# EAGLE library part 5CEFA7F27 (library altera)
5cefa7f27i7 edit this description Auto generated by make-symbol-device-package-bsdl.ulp Rev. 44 Source: 5cefa7f27i7.txt Connect-List generated from 5cefa7f27i7.DEV Variant '' with split-device-symbol.ulp
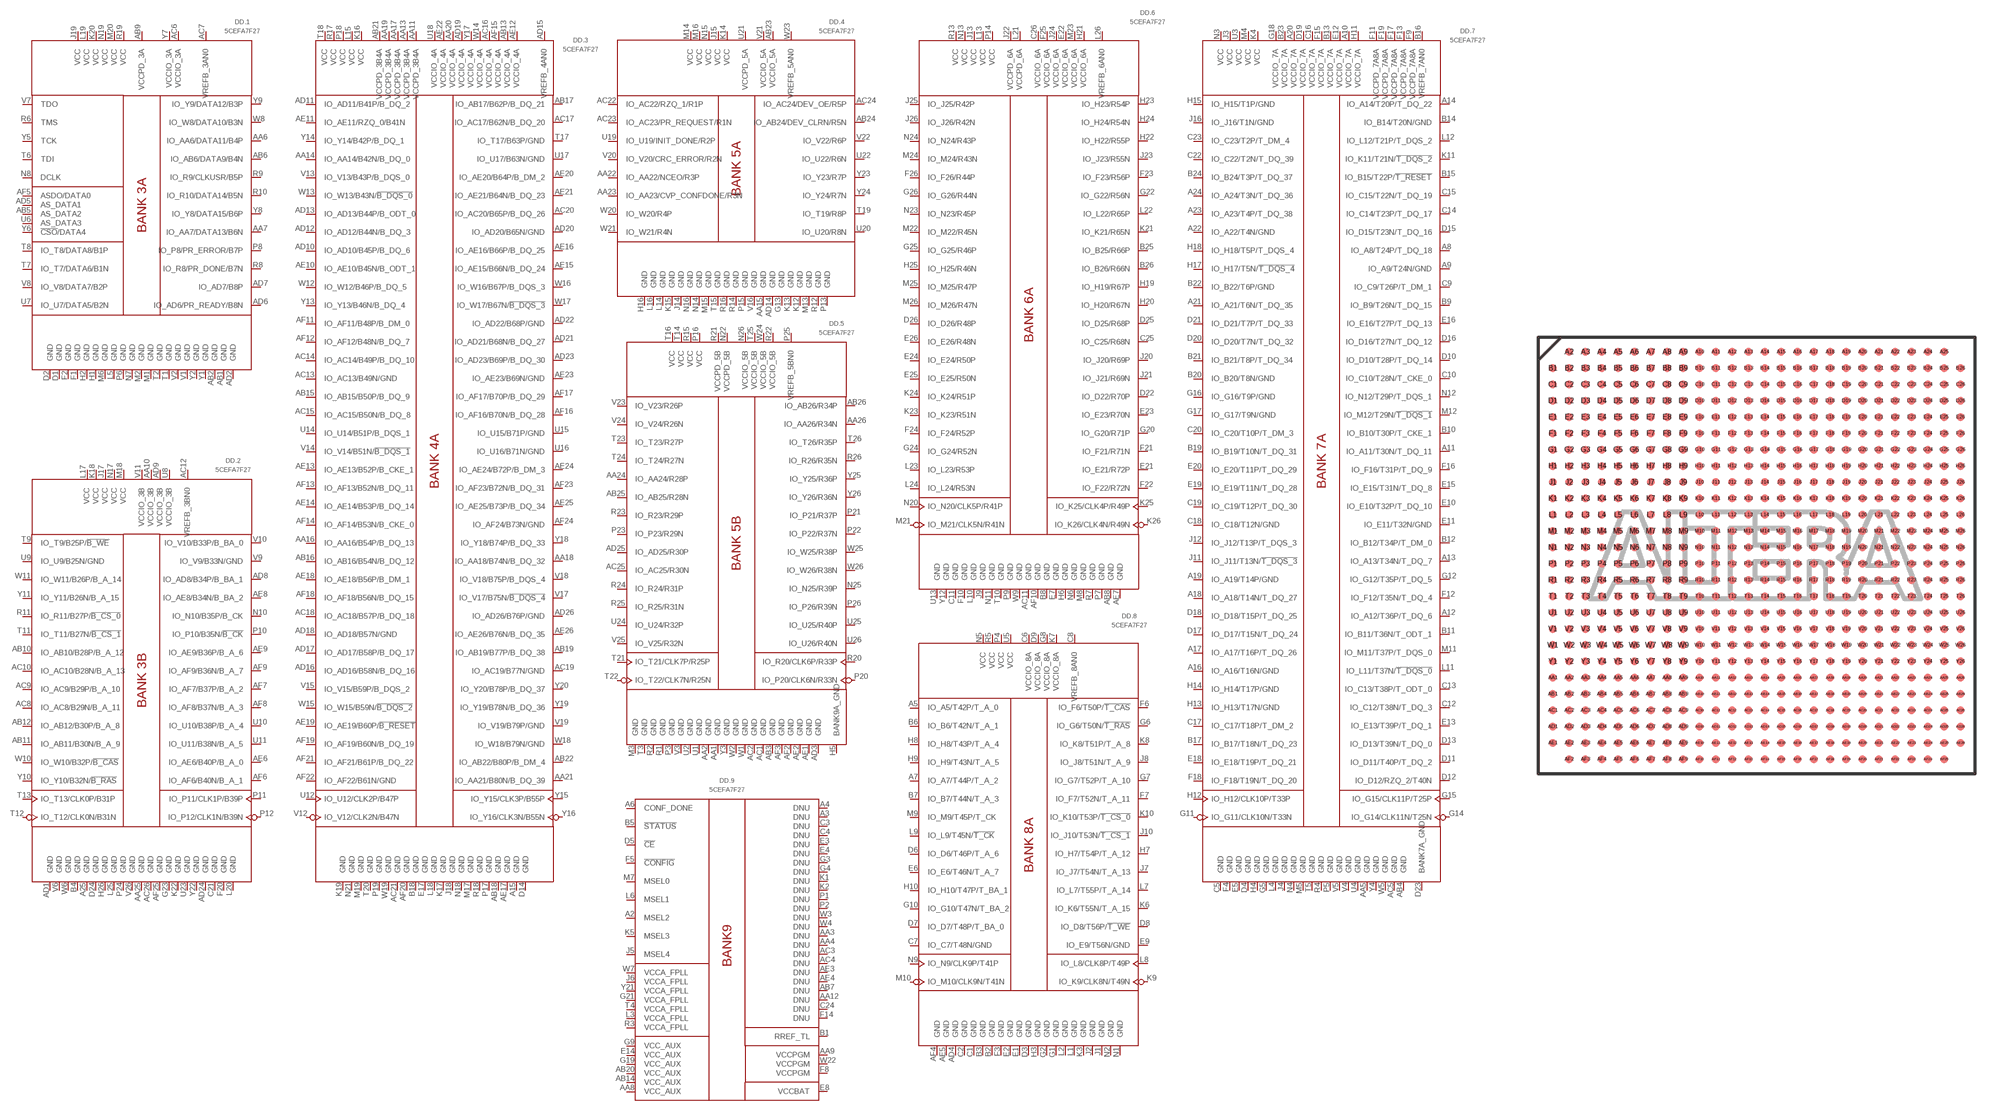
[diagram p6: symbol with the pads of FBGA672; footprint FBGA672]

Designator prefix DD; gates .1=5CEFA7F27I7_BANK3A .2=5CEFA7F27I7_BANK3B .3=5CEFA7F27I7_BANK4A .4=5CEFA7F27I7_BANK5A .5=5CEFA7F27I7_BANK5B .6=5CEFA7F27I7_BANK6A .7=5CEFA7F27I7_BANK7A .8=5CEFA7F27I7_BANK8A .9=5CEFA7F27I7_BANK9A

## 5CEFA7F27I7  [FBGA672]
A2  .9:MSEL2  in
A3  .9:DNU
A4  .9:DNU
A5  .8:IO_A5/T42P/T_A_0
A6  .9:CONF_DONE  out
A7  .8:IO_A7/T44P/T_A_2
A8  .7:IO_A8/T24P/T_DQ_18
A9  .7:IO_A9/T24N/GND
A10  .7:VCCIO_7A  pwr
A11  .7:IO_A11/T30N/T_DQ_11
A12  .7:IO_A12/T36P/T_DQ_6
A13  .7:IO_A13/T34N/T_DQ_7
A14  .7:IO_A14/T20P/T_DQ_22
A15  .3:GND  pwr
A16  .7:IO_A16/T16N/GND
A17  .7:IO_A17/T16P/T_DQ_26
A18  .7:IO_A18/T14N/T_DQ_27
A19  .7:IO_A19/T14P/GND
A20  .7:VCCIO_7A  pwr
A21  .7:IO_A21/T6N/T_DQ_35
A22  .7:IO_A22/T4N/GND
A23  .7:IO_A23/T4P/T_DQ_38
A24  .7:IO_A24/T3N/T_DQ_36
A25  .2:GND  pwr
AA1  .5:GND  pwr
AA2  .5:GND  pwr
AA3  .9:DNU
AA4  .9:DNU
AA5  .7:GND  pwr
AA6  .1:IO_AA6/DATA11/B4P
AA7  .1:IO_AA7/DATA13/B6N
AA8  .9:VCC_AUX  pwr
AA9  .9:VCCPGM  pwr
AA10  .2:VCCIO_3B  pwr
AA11  .3:VCCPD_3B4A  pwr
AA12  .9:DNU
AA13  .3:VCCPD_3B4A  pwr
AA14  .3:IO_AA14/B42N/B_DQ_0
AA15  .4:GND  pwr
AA16  .3:IO_AA16/B54P/B_DQ_13
AA17  .3:VCCPD_3B4A  pwr
AA18  .3:IO_AA18/B74N/B_DQ_32
AA19  .3:VCCPD_3B4A  pwr
AA20  .3:VCCIO_4A  pwr
AA21  .3:IO_AA21/B80N/B_DQ_39
AA22  .4:IO_AA22/NCEO/R3P
AA23  .4:IO_AA23/CVP_CONFDONE/R3N
AA24  .5:IO_AA24/R28P
AA25  .2:GND  pwr
AA26  .5:IO_AA26/R34N
AB1  .1:GND  pwr
AB2  .1:GND  pwr
AB3  .5:GND  pwr
AB4  .7:GND  pwr
AB5  .1:AS_DATA2  in
AB6  .1:IO_AB6/DATA9/B4N
AB7  .9:DNU
AB8  .6:GND  pwr
AB9  .1:VCCPD_3A  pwr
AB10  .2:IO_AB10/B28P/B_A_12
AB11  .2:IO_AB11/B30N/B_A_9
AB12  .2:IO_AB12/B30P/B_A_8
AB13  .3:VCCIO_4A  pwr
AB14  .9:VCC_AUX  pwr
AB15  .3:IO_AB15/B50P/B_DQ_9
AB16  .3:IO_AB16/B54N/B_DQ_12
AB17  .3:IO_AB17/B62P/B_DQ_21
AB18  .3:GND  pwr
AB19  .3:IO_AB19/B77P/B_DQ_38
AB20  .9:VCC_AUX  pwr
AB21  .3:VCCPD_3B4A  pwr
AB22  .3:IO_AB22/B80P/B_DM_4
AB23  .4:VCCIO_5A  pwr
AB24  .4:IO_AB24/DEV_CLRN/R5N
AB25  .5:IO_AB25/R28N
AB26  .5:IO_AB26/R34P
AC1  .5:GND  pwr
AC2  .5:GND  pwr
AC3  .9:DNU
AC4  .9:DNU
AC5  .7:GND  pwr
AC6  .1:VCCIO_3A  pwr
AC7  .1:VREFB_3AN0  pwr
AC8  .2:IO_AC8/B29N/B_A_11
AC9  .2:IO_AC9/B29P/B_A_10
AC10  .2:IO_AC10/B28N/B_A_13
AC11  .6:GND  pwr
AC12  .2:VREFB_3BN0  pwr
AC13  .3:IO_AC13/B49N/GND
AC14  .3:IO_AC14/B49P/B_DQ_10
AC15  .3:IO_AC15/B50N/B_DQ_8
AC16  .3:VCCIO_4A  pwr
AC17  .3:IO_AC17/B62N/B_DQ_20
AC18  .3:IO_AC18/B57P/B_DQ_18
AC19  .3:IO_AC19/B77N/GND
AC20  .3:IO_AC20/B65P/B_DQ_26
AC21  .3:GND  pwr
AC22  .4:IO_AC22/RZQ_1/R1P
AC23  .4:IO_AC23/PR_REQUEST/R1N
AC24  .4:IO_AC24/DEV_OE/R5P
AC25  .5:IO_AC25/R30N
AC26  .2:GND  pwr
AD1  .2:GND  pwr
AD2  .1:GND  pwr
AD3  .5:GND  pwr
AD4  .8:GND  pwr
AD5  .1:AS_DATA1  in
AD6  .1:IO_AD6/PR_READY/B8N
AD7  .1:IO_AD7/B8P
AD8  .2:IO_AD8/B34P/B_BA_1
AD9  .2:VCCIO_3B  pwr
AD10  .3:IO_AD10/B45P/B_DQ_6
AD11  .3:IO_AD11/B41P/B_DQ_2
AD12  .3:IO_AD12/B44N/B_DQ_3
AD13  .3:IO_AD13/B44P/B_ODT_0
AD14  .4:GND  pwr
AD15  .3:VREFB_4AN0  pwr
AD16  .3:IO_AD16/B58N/B_DQ_16
AD17  .3:IO_AD17/B58P/B_DQ_17
AD18  .3:IO_AD18/B57N/GND
AD19  .3:VCCIO_4A  pwr
AD20  .3:IO_AD20/B65N/GND
AD21  .3:IO_AD21/B68N/B_DQ_27
AD22  .3:IO_AD22/B68P/GND
AD23  .3:IO_AD23/B69P/B_DQ_30
AD24  .2:GND  pwr
AD25  .5:IO_AD25/R30P
AD26  .3:IO_AD26/B76P/GND
AE1  .5:GND  pwr
AE2  .5:GND  pwr
AE3  .9:DNU
AE4  .9:DNU
AE5  .8:GND  pwr
AE6  .2:IO_AE6/B40P/B_A_0
AE7  .6:GND  pwr
AE8  .2:IO_AE8/B34N/B_BA_2
AE9  .2:IO_AE9/B36P/B_A_6
AE10  .3:IO_AE10/B45N/B_ODT_1
AE11  .3:IO_AE11/RZQ_0/B41N
AE12  .3:VCCIO_4A  pwr
AE13  .3:IO_AE13/B52P/B_CKE_1
AE14  .3:IO_AE14/B53P/B_DQ_14
AE15  .3:IO_AE15/B66N/B_DQ_24
AE16  .3:IO_AE16/B66P/B_DQ_25
AE17  .3:GND  pwr
AE18  .3:IO_AE18/B56P/B_DM_1
AE19  .3:IO_AE19/B60P/!B_RESET
AE20  .3:IO_AE20/B64P/B_DM_2
AE21  .3:IO_AE21/B64N/B_DQ_23
AE22  .3:VCCIO_4A  pwr
AE23  .3:IO_AE23/B69N/GND
AE24  .3:IO_AE24/B72P/B_DM_3
AE25  .3:IO_AE25/B73P/B_DQ_34
AE26  .3:IO_AE26/B76N/B_DQ_35
AF2  .5:GND  pwr
AF3  .5:GND  pwr
AF4  .8:GND  pwr
AF5  .1:ASDO/DATA0  in
AF6  .2:IO_AF6/B40N/B_A_1
AF7  .2:IO_AF7/B37P/B_A_2
AF8  .2:IO_AF8/B37N/B_A_3
AF9  .2:IO_AF9/B36N/B_A_7
AF10  .6:GND  pwr
AF11  .3:IO_AF11/B48P/B_DM_0
AF12  .3:IO_AF12/B48N/B_DQ_7
AF13  .3:IO_AF13/B52N/B_DQ_11
AF14  .3:IO_AF14/B53N/B_CKE_0
AF15  .3:VCCIO_4A  pwr
AF16  .3:IO_AF16/B70N/B_DQ_28
AF17  .3:IO_AF17/B70P/B_DQ_29
AF18  .3:IO_AF18/B56N/B_DQ_15
AF19  .3:IO_AF19/B60N/B_DQ_19
AF20  .3:GND  pwr
AF21  .3:IO_AF21/B61P/B_DQ_22
AF22  .3:IO_AF22/B61N/GND
AF23  .3:IO_AF23/B72N/B_DQ_31
AF24  .3:IO_AF24/B73N/GND
AF25  .2:GND  pwr
B1  .9:RREF_TL  pas
B2  .8:GND  pwr
B3  .8:GND  pwr
B4  .2:GND  pwr
B5  .9:!STATUS  out
B6  .8:IO_B6/T42N/T_A_1
B7  .8:IO_B7/T44N/T_A_3
B8  .6:GND  pwr
B9  .7:IO_B9/T26N/T_DQ_15
B10  .7:IO_B10/T30P/T_CKE_1
B11  .7:IO_B11/T36N/T_ODT_1
B12  .7:IO_B12/T34P/T_DM_0
B13  .7:VCCIO_7A  pwr
B14  .7:IO_B14/T20N/GND
B15  .7:IO_B15/T22P/!T_RESET
B16  .7:VREFB_7AN0  pwr
B17  .7:IO_B17/T18N/T_DQ_23
B18  .3:GND  pwr
B19  .7:IO_B19/T10N/T_DQ_31
B20  .7:IO_B20/T8N/GND
B21  .7:IO_B21/T8P/T_DQ_34
B22  .7:IO_B22/T6P/GND
B23  .7:VCCIO_7A  pwr
B24  .7:IO_B24/T3P/T_DQ_37
B25  .6:IO_B25/R66P
B26  .6:IO_B26/R66N
C1  .8:GND  pwr
C2  .8:GND  pwr
C3  .9:DNU
C4  .9:DNU
C5  .7:GND  pwr
C6  .8:VCCIO_8A  pwr
C7  .8:IO_C7/T48N/GND
C8  .8:VREFB_8AN0  pwr
C9  .7:IO_C9/T26P/T_DM_1
C10  .7:IO_C10/T28N/T_CKE_0
C11  .6:GND  pwr
C12  .7:IO_C12/T38N/T_DQ_3
C13  .7:IO_C13/T38P/T_ODT_0
C14  .7:IO_C14/T23P/T_DQ_17
C15  .7:IO_C15/T22N/T_DQ_19
C16  .7:VCCIO_7A  pwr
C17  .7:IO_C17/T18P/T_DM_2
C18  .7:IO_C18/T12N/GND
C19  .7:IO_C19/T12P/T_DQ_30
C20  .7:IO_C20/T10P/T_DM_3
C21  .2:GND  pwr
C22  .7:IO_C22/T2N/T_DQ_39
C23  .7:IO_C23/T2P/T_DM_4
C24  .9:DNU
C25  .6:IO_C25/R68N
C26  .6:VCCIO_6A  pwr
D1  .1:GND  pwr
D2  .1:GND  pwr
D3  .8:GND  pwr
D4  .7:GND  pwr
D5  .9:!CE  in
D6  .8:IO_D6/T46P/T_A_6
D7  .8:IO_D7/T48P/T_BA_0
D8  .8:IO_D8/T56P/!T_WE
D9  .8:VCCIO_8A  pwr
D10  .7:IO_D10/T28P/T_DQ_14
D11  .7:IO_D11/T40P/T_DQ_2
D12  .7:IO_D12/RZQ_2/T40N
D13  .7:IO_D13/T39N/T_DQ_0
D14  .3:GND  pwr
D15  .7:IO_D15/T23N/T_DQ_16
D16  .7:IO_D16/T27N/T_DQ_12
D17  .7:IO_D17/T15N/T_DQ_24
D18  .7:IO_D18/T15P/T_DQ_25
D19  .7:VCCIO_7A  pwr
D20  .7:IO_D20/T7N/T_DQ_32
D21  .7:IO_D21/T7P/T_DQ_33
D22  .6:IO_D22/R70P
D23  .7:BANK7A_GND  pwr
D24  .2:GND  pwr
D25  .6:IO_D25/R68P
D26  .6:IO_D26/R48P
E1  .8:GND  pwr
E2  .8:GND  pwr
E3  .9:DNU
E4  .9:DNU
E5  .7:GND  pwr
E6  .8:IO_E6/T46N/T_A_7
E7  .6:GND  pwr
E8  .9:VCCBAT  pwr
E9  .8:IO_E9/T56N/GND
E10  .7:IO_E10/T32P/T_DQ_10
E11  .7:IO_E11/T32N/GND
E12  .7:VCCIO_7A  pwr
E13  .7:IO_E13/T39P/T_DQ_1
E14  .9:VCC_AUX  pwr
E15  .7:IO_E15/T31N/T_DQ_8
E16  .7:IO_E16/T27P/T_DQ_13
E17  .3:GND  pwr
E18  .7:IO_E18/T19P/T_DQ_21
E19  .7:IO_E19/T11N/T_DQ_28
E20  .7:IO_E20/T11P/T_DQ_29
E21  .6:IO_E21/R72P
E22  .6:VCCIO_6A  pwr
E23  .6:IO_E23/R70N
E24  .6:IO_E24/R50P
E25  .6:IO_E25/R50N
E26  .6:IO_E26/R48N
F1  .1:GND  pwr
F2  .1:GND  pwr
F3  .8:GND  pwr
F4  .7:GND  pwr
F5  .9:!CONFIG  in
F6  .8:IO_F6/T50P/!T_CAS
F7  .8:IO_F7/T52N/T_A_11
F8  .9:VCCPGM  pwr
F9  .7:VCCPD_7A8A  pwr
F10  .6:GND  pwr
F11  .7:VCCPD_7A8A  pwr
F12  .7:IO_F12/T35N/T_DQ_4
F13  .7:VCCPD_7A8A  pwr
F14  .9:DNU
F15  .7:VCCIO_7A  pwr
F16  .7:IO_F16/T31P/T_DQ_9
F17  .7:VCCPD_7A8A  pwr
F18  .7:IO_F18/T19N/T_DQ_20
F19  .7:VCCPD_7A8A  pwr
F20  .2:GND  pwr
F21  .6:IO_F21/R71N
F22  .6:IO_F22/R72N
F23  .6:IO_F23/R56P
F24  .6:IO_F24/R52P
F25  .6:VCCIO_6A  pwr
F26  .6:IO_F26/R44P
G1  .8:GND  pwr
G2  .8:GND  pwr
G3  .9:DNU
G4  .9:DNU
G5  .7:GND  pwr
G6  .8:IO_G6/T50N/!T_RAS
G7  .8:IO_G7/T52P/T_A_10
G8  .8:VCCIO_8A  pwr
G9  .9:VCC_AUX  pwr
G10  .8:IO_G10/T47N/T_BA_2
G11  .7:IO_G11/CLK10N/T33N  in
G12  .7:IO_G12/T35P/T_DQ_5
G13  .4:GND  pwr
G14  .7:IO_G14/CLK11N/T25N  in
G15  .7:IO_G15/CLK11P/T25P  in
G16  .7:IO_G16/T9P/GND
G17  .7:IO_G17/T9N/GND
G18  .7:VCCIO_7A  pwr
G19  .9:VCC_AUX  pwr
G20  .6:IO_G20/R71P
G21  .9:VCCA_FPLL  pwr
G22  .6:IO_G22/R56N
G23  .2:GND  pwr
G24  .6:IO_G24/R52N
G25  .6:IO_G25/R46P
G26  .6:IO_G26/R44N
H1  .1:GND  pwr
H2  .1:GND  pwr
H3  .8:GND  pwr
H4  .7:GND  pwr
H5  .5:BANK9A_GND  pwr
H6  .6:GND  pwr
H7  .8:IO_H7/T54P/T_A_12
H8  .8:IO_H8/T43P/T_A_4
H9  .8:IO_H9/T43N/T_A_5
H10  .8:IO_H10/T47P/T_BA_1
H11  .7:VCCIO_7A  pwr
H12  .7:IO_H12/CLK10P/T33P  in
H13  .7:IO_H13/T17N/GND
H14  .7:IO_H14/T17P/GND
H15  .7:IO_H15/T1P/GND
H16  .4:GND  pwr
H17  .7:IO_H17/T5N/!T_DQS_4
H18  .7:IO_H18/T5P/T_DQS_4
H19  .6:IO_H19/R67P
H20  .6:IO_H20/R67N
H21  .6:VCCIO_6A  pwr
H22  .6:IO_H22/R55P
H23  .6:IO_H23/R54P
H24  .6:IO_H24/R54N
H25  .6:IO_H25/R46N
H26  .2:GND  pwr
J1  .8:GND  pwr
J2  .8:GND  pwr
J3  .7:VCC  pwr
J4  .7:GND  pwr
J5  .9:MSEL4  in
J6  .9:VCCA_FPLL  pwr
J7  .8:IO_J7/T54N/T_A_13
J8  .8:IO_J8/T51N/T_A_9
J9  .6:GND  pwr
J10  .8:IO_J10/T53N/!T_CS_1
J11  .7:IO_J11/T13N/!T_DQS_3
J12  .7:IO_J12/T13P/T_DQS_3
J13  .6:VCC  pwr
J14  .4:GND  pwr
J15  .4:VCC  pwr
J16  .7:IO_J16/T1N/GND
J17  .2:VCC  pwr
J18  .3:GND  pwr
J19  .1:VCC  pwr
J20  .6:IO_J20/R69P
J21  .6:IO_J21/R69N
J22  .6:VCCPD_6A  pwr
J23  .6:IO_J23/R55N
J24  .6:VCCIO_6A  pwr
J25  .6:IO_J25/R42P
J26  .6:IO_J26/R42N
K1  .9:DNU
K2  .9:DNU
K3  .8:GND  pwr
K4  .7:VCC  pwr
K5  .9:MSEL3  in
K6  .8:IO_K6/T55N/T_A_15
K7  .8:VCCIO_8A  pwr
K8  .8:IO_K8/T51P/T_A_8
K9  .8:IO_K9/CLK8N/T49N  in
K10  .8:IO_K10/T53P/!T_CS_0
K11  .7:IO_K11/T21N/!T_DQS_2
K12  .4:GND  pwr
K13  .4:GND  pwr
K14  .4:VCC  pwr
K15  .4:GND  pwr
K16  .3:VCC  pwr
K17  .3:GND  pwr
K18  .2:VCC  pwr
K19  .3:GND  pwr
K20  .1:VCC  pwr
K21  .6:IO_K21/R65N
K22  .2:GND  pwr
K23  .6:IO_K23/R51N
K24  .6:IO_K24/R51P
K25  .6:IO_K25/CLK4P/R49P  in
K26  .6:IO_K26/CLK4N/R49N  in
L1  .8:GND  pwr
L2  .8:GND  pwr
L3  .9:VCCA_FPLL  pwr
L4  .7:GND  pwr
L5  .1:GND  pwr
L6  .9:MSEL1  in
L7  .8:IO_L7/T55P/T_A_14
L8  .8:IO_L8/CLK8P/T49P  in
L9  .8:IO_L9/T45N/!T_CK
L10  .6:GND  pwr
L11  .7:IO_L11/T37N/!T_DQS_0
L12  .7:IO_L12/T21P/T_DQS_2
L13  .6:VCC  pwr
L14  .4:GND  pwr
L15  .3:VCC  pwr
L16  .4:GND  pwr
L17  .2:VCC  pwr
L18  .3:GND  pwr
L19  .1:VCC  pwr
L20  .2:GND  pwr
L21  .6:VCCPD_6A  pwr
L22  .6:IO_L22/R65P
L23  .6:IO_L23/R53P
L24  .6:IO_L24/R53N
L25  .2:GND  pwr
L26  .6:VREFB_6AN0  pwr
M1  .1:GND  pwr
M2  .1:GND  pwr
M3  .5:GND  pwr
M4  .7:VCC  pwr
M5  .7:GND  pwr
M6  .1:GND  pwr
M7  .9:MSEL0  in
M8  .6:GND  pwr
M9  .8:IO_M9/T45P/T_CK
M10  .8:IO_M10/CLK9N/T41N  in
M11  .7:IO_M11/T37P/T_DQS_0
M12  .7:IO_M12/T29N/!T_DQS_1
M13  .4:GND  pwr
M14  .4:VCC  pwr
M15  .4:GND  pwr
M16  .4:VCC  pwr
M17  .3:GND  pwr
M18  .2:VCC  pwr
M19  .3:GND  pwr
M20  .1:VCC  pwr
M21  .6:IO_M21/CLK5N/R41N  in
M22  .6:IO_M22/R45N
M23  .6:VCCIO_6A  pwr
M24  .6:IO_M24/R43N
M25  .6:IO_M25/R47P
M26  .6:IO_M26/R47N
N1  .8:GND  pwr
N2  .8:GND  pwr
N3  .7:VCC  pwr
N4  .7:GND  pwr
N5  .8:VCC  pwr
N6  .6:GND  pwr
N7  .1:GND  pwr
N8  .1:DCLK  in
N9  .8:IO_N9/CLK9P/T41P  in
N10  .2:IO_N10/B35P/B_CK
N11  .6:GND  pwr
N12  .7:IO_N12/T29P/T_DQS_1
N13  .6:VCC  pwr
N14  .4:GND  pwr
N15  .4:VCC  pwr
N16  .4:GND  pwr
N17  .2:VCC  pwr
N18  .3:GND  pwr
N19  .1:VCC  pwr
N20  .6:IO_N20/CLK5P/R41P  in
N21  .3:GND  pwr
N22  .5:VCCPD_5B  pwr
N23  .6:IO_N23/R45P
N24  .6:IO_N24/R43P
N25  .5:IO_N25/R39P
N26  .5:VCCIO_5B  pwr
P1  .9:DNU
P2  .9:DNU
P3  .5:GND  pwr
P4  .8:VCC  pwr
P5  .7:GND  pwr
P6  .1:GND  pwr
P7  .6:GND  pwr
P8  .1:IO_P8/PR_ERROR/B7P
P9  .6:GND  pwr
P10  .2:IO_P10/B35N/!B_CK
P11  .2:IO_P11/CLK1P/B39P  in
P12  .2:IO_P12/CLK1N/B39N  in
P13  .4:GND  pwr
P14  .6:VCC  pwr
P15  .4:GND  pwr
P16  .5:VCC  pwr
P17  .3:GND  pwr
P18  .3:VCC  pwr
P19  .3:GND  pwr
P20  .5:IO_P20/CLK6N/R33N  in
P21  .5:IO_P21/R37P
P22  .5:IO_P22/R37N
P23  .5:IO_P23/R29N
P24  .2:GND  pwr
P25  .5:VREFB_5BN0  pwr
P26  .5:IO_P26/R39N
R1  .5:GND  pwr
R2  .5:GND  pwr
R3  .9:VCCA_FPLL  pwr
R4  .7:GND  pwr
R5  .8:VCC  pwr
R6  .1:TMS  in
R7  .6:GND  pwr
R8  .1:IO_R8/PR_DONE/B7N
R9  .1:IO_R9/CLKUSR/B5P
R10  .1:IO_R10/DATA14/B5N
R11  .2:IO_R11/B27P/!B_CS_0
R12  .4:GND  pwr
R13  .6:VCC  pwr
R14  .4:GND  pwr
R15  .5:VCC  pwr
R16  .4:GND  pwr
R17  .3:VCC  pwr
R18  .3:GND  pwr
R19  .1:VCC  pwr
R20  .5:IO_R20/CLK6P/R33P  in
R21  .5:VCCPD_5B  pwr
R22  .5:VCCIO_5B  pwr
R23  .5:IO_R23/R29P
R24  .5:IO_R24/R31P
R25  .5:IO_R25/R31N
R26  .5:IO_R26/R35N
T1  .1:GND  pwr
T2  .1:GND  pwr
T3  .5:GND  pwr
T4  .9:VCCA_FPLL  pwr
T5  .7:GND  pwr
T6  .1:TDI  in
T7  .1:IO_T7/DATA6/B1N
T8  .1:IO_T8/DATA8/B1P
T9  .2:IO_T9/B25P/!B_WE
T10  .6:GND  pwr
T11  .2:IO_T11/B27N/!B_CS_1
T12  .2:IO_T12/CLK0N/B31N  in
T13  .2:IO_T13/CLK0P/B31P  in
T14  .5:VCC  pwr
T15  .4:GND  pwr
T16  .5:VCC  pwr
T17  .3:IO_T17/B63P/GND
T18  .3:VCC  pwr
T19  .4:IO_T19/R8P
T20  .3:GND  pwr
T21  .5:IO_T21/CLK7P/R25P  in
T22  .5:IO_T22/CLK7N/R25N  in
T23  .5:IO_T23/R27P
T24  .5:IO_T24/R27N
T25  .5:VCCIO_5B  pwr
T26  .5:IO_T26/R35P
U1  .5:GND  pwr
U2  .5:GND  pwr
U3  .7:VCC  pwr
U4  .7:GND  pwr
U5  .8:VCC  pwr
U6  .1:AS_DATA3  in
U7  .1:IO_U7/DATA5/B2N
U8  .2:VCCIO_3B  pwr
U9  .2:IO_U9/B25N/GND
U10  .2:IO_U10/B38P/B_A_4
U11  .2:IO_U11/B38N/B_A_5
U12  .3:IO_U12/CLK2P/B47P  in
U13  .6:GND  pwr
U14  .3:IO_U14/B51P/B_DQS_1
U15  .3:IO_U15/B71P/GND
U16  .3:IO_U16/B71N/GND
U17  .3:IO_U17/B63N/GND
U18  .3:VCCIO_4A  pwr
U19  .4:IO_U19/INIT_DONE/R2P
U20  .4:IO_U20/R8N
U21  .4:VCCPD_5A  pwr
U22  .4:IO_U22/R6N
U23  .2:GND  pwr
U24  .5:IO_U24/R32P
U25  .5:IO_U25/R40P
U26  .5:IO_U26/R40N
V1  .1:GND  pwr
V2  .1:GND  pwr
V3  .5:GND  pwr
V4  .7:GND  pwr
V5  .7:GND  pwr
V6  .2:GND  pwr
V7  .1:TDO  out
V8  .1:IO_V8/DATA7/B2P
V9  .2:IO_V9/B33N/GND
V10  .2:IO_V10/B33P/B_BA_0
V11  .2:VCCIO_3B  pwr
V12  .3:IO_V12/CLK2N/B47N  in
V13  .3:IO_V13/B43P/B_DQS_0
V14  .3:IO_V14/B51N/!B_DQS_1
V15  .3:IO_V15/B59P/B_DQS_2
V16  .4:GND  pwr
V17  .3:IO_V17/B75N/!B_DQS_4
V18  .3:IO_V18/B75P/B_DQS_4
V19  .3:IO_V19/B79P/GND
V20  .4:IO_V20/CRC_ERROR/R2N
V21  .4:VCCIO_5A  pwr
V22  .4:IO_V22/R6P
V23  .5:IO_V23/R26P
V24  .5:IO_V24/R26N
V25  .5:IO_V25/R32N
V26  .2:GND  pwr
W1  .5:GND  pwr
W2  .5:GND  pwr
W3  .9:DNU
W4  .9:DNU
W5  .7:GND  pwr
W6  .2:GND  pwr
W7  .9:VCCA_FPLL  pwr
W8  .1:IO_W8/DATA10/B3N
W9  .6:GND  pwr
W10  .2:IO_W10/B32P/!B_CAS
W11  .2:IO_W11/B26P/B_A_14
W12  .3:IO_W12/B46P/B_DQ_5
W13  .3:IO_W13/B43N/!B_DQS_0
W14  .3:VCCIO_4A  pwr
W15  .3:IO_W15/B59N/!B_DQS_2
W16  .3:IO_W16/B67P/B_DQS_3
W17  .3:IO_W17/B67N/!B_DQS_3
W18  .3:IO_W18/B79N/GND
W19  .3:GND  pwr
W20  .4:IO_W20/R4P
W21  .4:IO_W21/R4N
W22  .9:VCCPGM  pwr
W23  .4:VREFB_5AN0  pwr
W24  .5:VCCIO_5B  pwr
W25  .5:IO_W25/R38P
W26  .5:IO_W26/R38N
Y1  .1:GND  pwr
Y2  .1:GND  pwr
Y3  .5:GND  pwr
Y4  .7:GND  pwr
Y5  .1:TCK  in
Y6  .1:!CSO!/DATA4  in
Y7  .1:VCCIO_3A  pwr
Y8  .1:IO_Y8/DATA15/B6P
Y9  .1:IO_Y9/DATA12/B3P
Y10  .2:IO_Y10/B32N/!B_RAS
Y11  .2:IO_Y11/B26N/B_A_15
Y12  .6:GND  pwr
Y13  .3:IO_Y13/B46N/B_DQ_4
Y14  .3:IO_Y14/B42P/B_DQ_1
Y15  .3:IO_Y15/CLK3P/B55P  in
Y16  .3:IO_Y16/CLK3N/B55N  in
Y17  .3:VCCIO_4A  pwr
Y18  .3:IO_Y18/B74P/B_DQ_33
Y19  .3:IO_Y19/B78N/B_DQ_36
Y20  .3:IO_Y20/B78P/B_DQ_37
Y21  .9:VCCA_FPLL  pwr
Y22  .2:GND  pwr
Y23  .4:IO_Y23/R7P
Y24  .4:IO_Y24/R7N
Y25  .5:IO_Y25/R36P
Y26  .5:IO_Y26/R36N

## Footprint FBGA672 (pad centres in mm)
5cefa7f27i6 edit this description Auto generated by make-symbol-device-package-bsdl.ulp Rev. 44 Source: 5cefa7f27i6.txt
smd 0.5 x 0.5: A2 -11.5,12.5; A3 -10.5,12.5; A4 -9.5,12.5; A5 -8.5,12.5; A6 -7.5,12.5; A7 -6.5,12.5; A8 -5.5,12.5; A9 -4.5,12.5; A10 -3.5,12.5; A11 -2.5,12.5; A12 -1.5,12.5; A13 -0.5,12.5; A14 0.5,12.5; A15 1.5,12.5; A16 2.5,12.5; A17 3.5,12.5; A18 4.5,12.5; A19 5.5,12.5; A20 6.5,12.5; A21 7.5,12.5; A22 8.5,12.5; A23 9.5,12.5; A24 10.5,12.5; A25 11.5,12.5; AA1 -12.5,-7.5; AA2 -11.5,-7.5; AA3 -10.5,-7.5; AA4 -9.5,-7.5; AA5 -8.5,-7.5; AA6 -7.5,-7.5; AA7 -6.5,-7.5; AA8 -5.5,-7.5; AA9 -4.5,-7.5; AA10 -3.5,-7.5; AA11 -2.5,-7.5; AA12 -1.5,-7.5; AA13 -0.5,-7.5; AA14 0.5,-7.5; AA15 1.5,-7.5; AA16 2.5,-7.5; AA17 3.5,-7.5; AA18 4.5,-7.5; AA19 5.5,-7.5; AA20 6.5,-7.5; AA21 7.5,-7.5; AA22 8.5,-7.5; AA23 9.5,-7.5; AA24 10.5,-7.5; AA25 11.5,-7.5; AA26 12.5,-7.5; AB1 -12.5,-8.5; AB2 -11.5,-8.5; AB3 -10.5,-8.5; AB4 -9.5,-8.5; AB5 -8.5,-8.5; AB6 -7.5,-8.5; AB7 -6.5,-8.5; AB8 -5.5,-8.5; AB9 -4.5,-8.5; AB10 -3.5,-8.5; AB11 -2.5,-8.5; AB12 -1.5,-8.5; AB13 -0.5,-8.5; AB14 0.5,-8.5; AB15 1.5,-8.5; AB16 2.5,-8.5; AB17 3.5,-8.5; AB18 4.5,-8.5; AB19 5.5,-8.5; AB20 6.5,-8.5; AB21 7.5,-8.5; AB22 8.5,-8.5; AB23 9.5,-8.5; AB24 10.5,-8.5; AB25 11.5,-8.5; AB26 12.5,-8.5; AC1 -12.5,-9.5; AC2 -11.5,-9.5; AC3 -10.5,-9.5; AC4 -9.5,-9.5; AC5 -8.5,-9.5; AC6 -7.5,-9.5; AC7 -6.5,-9.5; AC8 -5.5,-9.5; AC9 -4.5,-9.5; AC10 -3.5,-9.5; AC11 -2.5,-9.5; AC12 -1.5,-9.5; AC13 -0.5,-9.5; AC14 0.5,-9.5; AC15 1.5,-9.5; AC16 2.5,-9.5; AC17 3.5,-9.5; AC18 4.5,-9.5; AC19 5.5,-9.5; AC20 6.5,-9.5; AC21 7.5,-9.5; AC22 8.5,-9.5; AC23 9.5,-9.5; AC24 10.5,-9.5; AC25 11.5,-9.5; AC26 12.5,-9.5; AD1 -12.5,-10.5; AD2 -11.5,-10.5; AD3 -10.5,-10.5; AD4 -9.5,-10.5; AD5 -8.5,-10.5; AD6 -7.5,-10.5; AD7 -6.5,-10.5; AD8 -5.5,-10.5; AD9 -4.5,-10.5; AD10 -3.5,-10.5; AD11 -2.5,-10.5; AD12 -1.5,-10.5; AD13 -0.5,-10.5; AD14 0.5,-10.5; AD15 1.5,-10.5; AD16 2.5,-10.5; AD17 3.5,-10.5; AD18 4.5,-10.5; AD19 5.5,-10.5; AD20 6.5,-10.5; AD21 7.5,-10.5; AD22 8.5,-10.5; AD23 9.5,-10.5; AD24 10.5,-10.5; AD25 11.5,-10.5; AD26 12.5,-10.5; AE1 -12.5,-11.5; AE2 -11.5,-11.5; AE3 -10.5,-11.5; AE4 -9.5,-11.5; AE5 -8.5,-11.5; AE6 -7.5,-11.5; AE7 -6.5,-11.5; AE8 -5.5,-11.5; AE9 -4.5,-11.5; AE10 -3.5,-11.5; AE11 -2.5,-11.5; AE12 -1.5,-11.5; AE13 -0.5,-11.5; AE14 0.5,-11.5; AE15 1.5,-11.5; AE16 2.5,-11.5; AE17 3.5,-11.5; AE18 4.5,-11.5; AE19 5.5,-11.5; AE20 6.5,-11.5; AE21 7.5,-11.5; AE22 8.5,-11.5; AE23 9.5,-11.5; AE24 10.5,-11.5; AE25 11.5,-11.5; AE26 12.5,-11.5; AF2 -11.5,-12.5; AF3 -10.5,-12.5; AF4 -9.5,-12.5; AF5 -8.5,-12.5; AF6 -7.5,-12.5; AF7 -6.5,-12.5; AF8 -5.5,-12.5; AF9 -4.5,-12.5; AF10 -3.5,-12.5; AF11 -2.5,-12.5; AF12 -1.5,-12.5; AF13 -0.5,-12.5; AF14 0.5,-12.5; AF15 1.5,-12.5; AF16 2.5,-12.5; AF17 3.5,-12.5; AF18 4.5,-12.5; AF19 5.5,-12.5; AF20 6.5,-12.5; AF21 7.5,-12.5; AF22 8.5,-12.5; AF23 9.5,-12.5; AF24 10.5,-12.5; AF25 11.5,-12.5; B1 -12.5,11.5; B2 -11.5,11.5; B3 -10.5,11.5; B4 -9.5,11.5; B5 -8.5,11.5; B6 -7.5,11.5; B7 -6.5,11.5; B8 -5.5,11.5; B9 -4.5,11.5; B10 -3.5,11.5; B11 -2.5,11.5; B12 -1.5,11.5; B13 -0.5,11.5; B14 0.5,11.5; B15 1.5,11.5; B16 2.5,11.5; B17 3.5,11.5; B18 4.5,11.5; B19 5.5,11.5; B20 6.5,11.5; B21 7.5,11.5; B22 8.5,11.5; B23 9.5,11.5; B24 10.5,11.5; B25 11.5,11.5; B26 12.5,11.5; C1 -12.5,10.5; C2 -11.5,10.5; C3 -10.5,10.5; C4 -9.5,10.5; C5 -8.5,10.5; C6 -7.5,10.5; C7 -6.5,10.5; C8 -5.5,10.5; C9 -4.5,10.5; C10 -3.5,10.5; C11 -2.5,10.5; C12 -1.5,10.5; C13 -0.5,10.5; C14 0.5,10.5; C15 1.5,10.5; C16 2.5,10.5; C17 3.5,10.5; C18 4.5,10.5; C19 5.5,10.5; C20 6.5,10.5; C21 7.5,10.5; C22 8.5,10.5; C23 9.5,10.5; C24 10.5,10.5; C25 11.5,10.5; C26 12.5,10.5; D1 -12.5,9.5; D2 -11.5,9.5; D3 -10.5,9.5; D4 -9.5,9.5; D5 -8.5,9.5; D6 -7.5,9.5; D7 -6.5,9.5; D8 -5.5,9.5; D9 -4.5,9.5; D10 -3.5,9.5; D11 -2.5,9.5; D12 -1.5,9.5; D13 -0.5,9.5; D14 0.5,9.5; D15 1.5,9.5; D16 2.5,9.5; D17 3.5,9.5; D18 4.5,9.5; D19 5.5,9.5; D20 6.5,9.5; D21 7.5,9.5; D22 8.5,9.5; D23 9.5,9.5; D24 10.5,9.5; D25 11.5,9.5; D26 12.5,9.5; E1 -12.5,8.5; E2 -11.5,8.5; E3 -10.5,8.5; E4 -9.5,8.5; E5 -8.5,8.5; E6 -7.5,8.5; E7 -6.5,8.5; E8 -5.5,8.5; E9 -4.5,8.5; E10 -3.5,8.5; E11 -2.5,8.5; E12 -1.5,8.5; E13 -0.5,8.5; E14 0.5,8.5; E15 1.5,8.5; E16 2.5,8.5; E17 3.5,8.5; E18 4.5,8.5; E19 5.5,8.5; E20 6.5,8.5; E21 7.5,8.5; E22 8.5,8.5; E23 9.5,8.5; E24 10.5,8.5; E25 11.5,8.5; E26 12.5,8.5; F1 -12.5,7.5; F2 -11.5,7.5; F3 -10.5,7.5; F4 -9.5,7.5; F5 -8.5,7.5; F6 -7.5,7.5; F7 -6.5,7.5; F8 -5.5,7.5; F9 -4.5,7.5; F10 -3.5,7.5; F11 -2.5,7.5; F12 -1.5,7.5; F13 -0.5,7.5; F14 0.5,7.5; F15 1.5,7.5; F16 2.5,7.5; F17 3.5,7.5; F18 4.5,7.5; F19 5.5,7.5; F20 6.5,7.5; F21 7.5,7.5; F22 8.5,7.5; F23 9.5,7.5; F24 10.5,7.5; F25 11.5,7.5; F26 12.5,7.5; G1 -12.5,6.5; G2 -11.5,6.5; G3 -10.5,6.5; G4 -9.5,6.5; G5 -8.5,6.5; G6 -7.5,6.5; G7 -6.5,6.5; G8 -5.5,6.5; G9 -4.5,6.5; G10 -3.5,6.5; G11 -2.5,6.5; G12 -1.5,6.5; G13 -0.5,6.5; G14 0.5,6.5; G15 1.5,6.5; G16 2.5,6.5; G17 3.5,6.5; G18 4.5,6.5; G19 5.5,6.5; G20 6.5,6.5; G21 7.5,6.5; G22 8.5,6.5; G23 9.5,6.5; G24 10.5,6.5; G25 11.5,6.5; G26 12.5,6.5; H1 -12.5,5.5; H2 -11.5,5.5; H3 -10.5,5.5; H4 -9.5,5.5; H5 -8.5,5.5; H6 -7.5,5.5; H7 -6.5,5.5; H8 -5.5,5.5; H9 -4.5,5.5; H10 -3.5,5.5; H11 -2.5,5.5; H12 -1.5,5.5; H13 -0.5,5.5; H14 0.5,5.5; H15 1.5,5.5; H16 2.5,5.5; H17 3.5,5.5; H18 4.5,5.5; H19 5.5,5.5; H20 6.5,5.5; H21 7.5,5.5; H22 8.5,5.5; H23 9.5,5.5; H24 10.5,5.5; H25 11.5,5.5; H26 12.5,5.5; J1 -12.5,4.5; J2 -11.5,4.5; J3 -10.5,4.5; J4 -9.5,4.5; J5 -8.5,4.5; J6 -7.5,4.5; J7 -6.5,4.5; J8 -5.5,4.5; J9 -4.5,4.5; J10 -3.5,4.5; J11 -2.5,4.5; J12 -1.5,4.5; J13 -0.5,4.5; J14 0.5,4.5; J15 1.5,4.5; J16 2.5,4.5; J17 3.5,4.5; J18 4.5,4.5; J19 5.5,4.5; J20 6.5,4.5; J21 7.5,4.5; J22 8.5,4.5; J23 9.5,4.5; J24 10.5,4.5; J25 11.5,4.5; J26 12.5,4.5; K1 -12.5,3.5; K2 -11.5,3.5; K3 -10.5,3.5; K4 -9.5,3.5; K5 -8.5,3.5; K6 -7.5,3.5; K7 -6.5,3.5; K8 -5.5,3.5; K9 -4.5,3.5; K10 -3.5,3.5; K11 -2.5,3.5; K12 -1.5,3.5; K13 -0.5,3.5; K14 0.5,3.5; K15 1.5,3.5; K16 2.5,3.5; K17 3.5,3.5; K18 4.5,3.5; K19 5.5,3.5; K20 6.5,3.5; K21 7.5,3.5; K22 8.5,3.5; K23 9.5,3.5; K24 10.5,3.5; K25 11.5,3.5; K26 12.5,3.5; L1 -12.5,2.5; L2 -11.5,2.5; L3 -10.5,2.5; L4 -9.5,2.5; L5 -8.5,2.5; L6 -7.5,2.5; L7 -6.5,2.5; L8 -5.5,2.5; L9 -4.5,2.5; L10 -3.5,2.5; L11 -2.5,2.5; L12 -1.5,2.5; L13 -0.5,2.5; L14 0.5,2.5; L15 1.5,2.5; L16 2.5,2.5; L17 3.5,2.5; L18 4.5,2.5; L19 5.5,2.5; L20 6.5,2.5; L21 7.5,2.5; L22 8.5,2.5; L23 9.5,2.5; L24 10.5,2.5; L25 11.5,2.5; L26 12.5,2.5; M1 -12.5,1.5; M2 -11.5,1.5; M3 -10.5,1.5; M4 -9.5,1.5; M5 -8.5,1.5; M6 -7.5,1.5; M7 -6.5,1.5; M8 -5.5,1.5; M9 -4.5,1.5; M10 -3.5,1.5; M11 -2.5,1.5; M12 -1.5,1.5; M13 -0.5,1.5; M14 0.5,1.5; M15 1.5,1.5; M16 2.5,1.5; M17 3.5,1.5; M18 4.5,1.5; M19 5.5,1.5; M20 6.5,1.5; M21 7.5,1.5; M22 8.5,1.5; M23 9.5,1.5; M24 10.5,1.5; M25 11.5,1.5; M26 12.5,1.5; N1 -12.5,0.5; N2 -11.5,0.5; N3 -10.5,0.5; N4 -9.5,0.5; N5 -8.5,0.5; N6 -7.5,0.5; N7 -6.5,0.5; N8 -5.5,0.5; N9 -4.5,0.5; N10 -3.5,0.5; N11 -2.5,0.5; N12 -1.5,0.5; N13 -0.5,0.5; N14 0.5,0.5; N15 1.5,0.5; N16 2.5,0.5; N17 3.5,0.5; N18 4.5,0.5; N19 5.5,0.5; N20 6.5,0.5; N21 7.5,0.5; N22 8.5,0.5; N23 9.5,0.5; N24 10.5,0.5; N25 11.5,0.5; N26 12.5,0.5; P1 -12.5,-0.5; P2 -11.5,-0.5; P3 -10.5,-0.5; P4 -9.5,-0.5; P5 -8.5,-0.5; P6 -7.5,-0.5; P7 -6.5,-0.5; P8 -5.5,-0.5; P9 -4.5,-0.5; P10 -3.5,-0.5; P11 -2.5,-0.5; P12 -1.5,-0.5; P13 -0.5,-0.5; P14 0.5,-0.5; P15 1.5,-0.5; P16 2.5,-0.5; P17 3.5,-0.5; P18 4.5,-0.5; P19 5.5,-0.5; P20 6.5,-0.5; P21 7.5,-0.5; P22 8.5,-0.5; P23 9.5,-0.5; P24 10.5,-0.5; P25 11.5,-0.5; P26 12.5,-0.5; R1 -12.5,-1.5; R2 -11.5,-1.5; R3 -10.5,-1.5; R4 -9.5,-1.5; R5 -8.5,-1.5; R6 -7.5,-1.5; R7 -6.5,-1.5; R8 -5.5,-1.5; R9 -4.5,-1.5; R10 -3.5,-1.5; R11 -2.5,-1.5; R12 -1.5,-1.5; R13 -0.5,-1.5; R14 0.5,-1.5; R15 1.5,-1.5; R16 2.5,-1.5; R17 3.5,-1.5; R18 4.5,-1.5; R19 5.5,-1.5; R20 6.5,-1.5; R21 7.5,-1.5; R22 8.5,-1.5; R23 9.5,-1.5; R24 10.5,-1.5; R25 11.5,-1.5; R26 12.5,-1.5; T1 -12.5,-2.5; T2 -11.5,-2.5; T3 -10.5,-2.5; T4 -9.5,-2.5; T5 -8.5,-2.5; T6 -7.5,-2.5; T7 -6.5,-2.5; T8 -5.5,-2.5; T9 -4.5,-2.5; T10 -3.5,-2.5; T11 -2.5,-2.5; T12 -1.5,-2.5; T13 -0.5,-2.5; T14 0.5,-2.5; T15 1.5,-2.5; T16 2.5,-2.5; T17 3.5,-2.5; T18 4.5,-2.5; T19 5.5,-2.5; T20 6.5,-2.5; T21 7.5,-2.5; T22 8.5,-2.5; T23 9.5,-2.5; T24 10.5,-2.5; T25 11.5,-2.5; T26 12.5,-2.5; U1 -12.5,-3.5; U2 -11.5,-3.5; U3 -10.5,-3.5; U4 -9.5,-3.5; U5 -8.5,-3.5; U6 -7.5,-3.5; U7 -6.5,-3.5; U8 -5.5,-3.5; U9 -4.5,-3.5; U10 -3.5,-3.5; U11 -2.5,-3.5; U12 -1.5,-3.5; U13 -0.5,-3.5; U14 0.5,-3.5; U15 1.5,-3.5; U16 2.5,-3.5; U17 3.5,-3.5; U18 4.5,-3.5; U19 5.5,-3.5; U20 6.5,-3.5; U21 7.5,-3.5; U22 8.5,-3.5; U23 9.5,-3.5; U24 10.5,-3.5; U25 11.5,-3.5; U26 12.5,-3.5; V1 -12.5,-4.5; V2 -11.5,-4.5; V3 -10.5,-4.5; V4 -9.5,-4.5; V5 -8.5,-4.5; V6 -7.5,-4.5; V7 -6.5,-4.5; V8 -5.5,-4.5; V9 -4.5,-4.5; V10 -3.5,-4.5; V11 -2.5,-4.5; V12 -1.5,-4.5; V13 -0.5,-4.5; V14 0.5,-4.5; V15 1.5,-4.5; V16 2.5,-4.5; V17 3.5,-4.5; V18 4.5,-4.5; V19 5.5,-4.5; V20 6.5,-4.5; V21 7.5,-4.5; V22 8.5,-4.5; V23 9.5,-4.5; V24 10.5,-4.5; V25 11.5,-4.5; V26 12.5,-4.5; W1 -12.5,-5.5; W2 -11.5,-5.5; W3 -10.5,-5.5; W4 -9.5,-5.5; W5 -8.5,-5.5; W6 -7.5,-5.5; W7 -6.5,-5.5; W8 -5.5,-5.5; W9 -4.5,-5.5; W10 -3.5,-5.5; W11 -2.5,-5.5; W12 -1.5,-5.5; W13 -0.5,-5.5; W14 0.5,-5.5; W15 1.5,-5.5; W16 2.5,-5.5; W17 3.5,-5.5; W18 4.5,-5.5; W19 5.5,-5.5; W20 6.5,-5.5; W21 7.5,-5.5; W22 8.5,-5.5; W23 9.5,-5.5; W24 10.5,-5.5; W25 11.5,-5.5; W26 12.5,-5.5; Y1 -12.5,-6.5; Y2 -11.5,-6.5; Y3 -10.5,-6.5; Y4 -9.5,-6.5; Y5 -8.5,-6.5; Y6 -7.5,-6.5; Y7 -6.5,-6.5; Y8 -5.5,-6.5; Y9 -4.5,-6.5; Y10 -3.5,-6.5; Y11 -2.5,-6.5; Y12 -1.5,-6.5; Y13 -0.5,-6.5; Y14 0.5,-6.5; Y15 1.5,-6.5; Y16 2.5,-6.5; Y17 3.5,-6.5; Y18 4.5,-6.5; Y19 5.5,-6.5; Y20 6.5,-6.5; Y21 7.5,-6.5; Y22 8.5,-6.5; Y23 9.5,-6.5; Y24 10.5,-6.5; Y25 11.5,-6.5; Y26 12.5,-6.5